# Altium footprint library CONN HEADER VERT 2POS 3.96MM.PcbLib: 1 footprints
Each footprint in its own frame and in the unit in brackets; x right, y up, seen from the top. Pads: shape width x height; smd on the part's side, far side on the other; paste and mask are expansions set on the pad; w line width, h text height; cw(c..) or ccw(c..) is an arc to the next point about the centre after c.
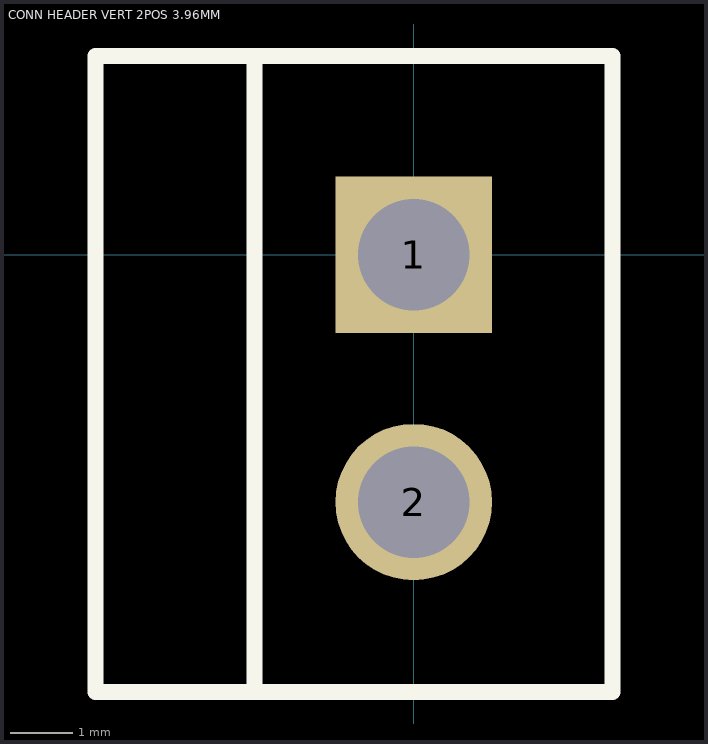
[diagram p0: the footprint, top view; thin cyan lines are the x and y axes]

## CONN HEADER VERT 2POS 3.96MM [mm] "Connector Header Through Hole 2 position 0.156\" (3.96mm)"
pads (2):
  rect 2.5x2.5 hole 1.778: 1(0,0)
  round 2.5 hole 1.778: 2(0,-3.95)
Top Overlay:
  lines w0.254: -2.54,-6.985 -2.54,3.175 ; -5.08,-6.985 -5.08,3.175 3.175,3.175 3.175,-6.985 -5.08,-6.985
3D body "Molex Conn Header Vert 2Pos 3.96mm kk.stp": height 14.86, standoff -3.43, extent -4.832,-5.918 5.175,1.854